# Altium schematic symbol library TMUX1119DBVR.SchLib: 1 symbol
Pins are listed as number, name and electrical type; pins without a type are passive.

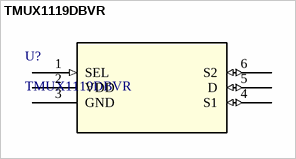
[diagram p0: symbol TMUX1119DBVR]

## TMUX1119DBVR
designator U?
3-pA on-state leakage current, 5-V, 2:1 (SPDT), 1-channel precision multiplexer 6-SOT-23 -40 to 125; Manufacturer_Name: Texas Instruments; Copyright: Copyright (C) 2025 Ultra Librarian. All rights reserved.; Manufacturer_Part_Number: TMUX1119DBVR; RefDes: RefDes; Type: Type
footprint SOT-23-6_DBV_TEX
pins: 1 SEL (in), 2 VDD (power), 3 GND (power), 4 S1 (io), 5 D (io), 6 S2 (io)